# Altium integrated library Linear Technology Power Management Power-Over-Ethernet (PoE) Interface Controllers.IntLib: 174 symbols (part 15 of 16)
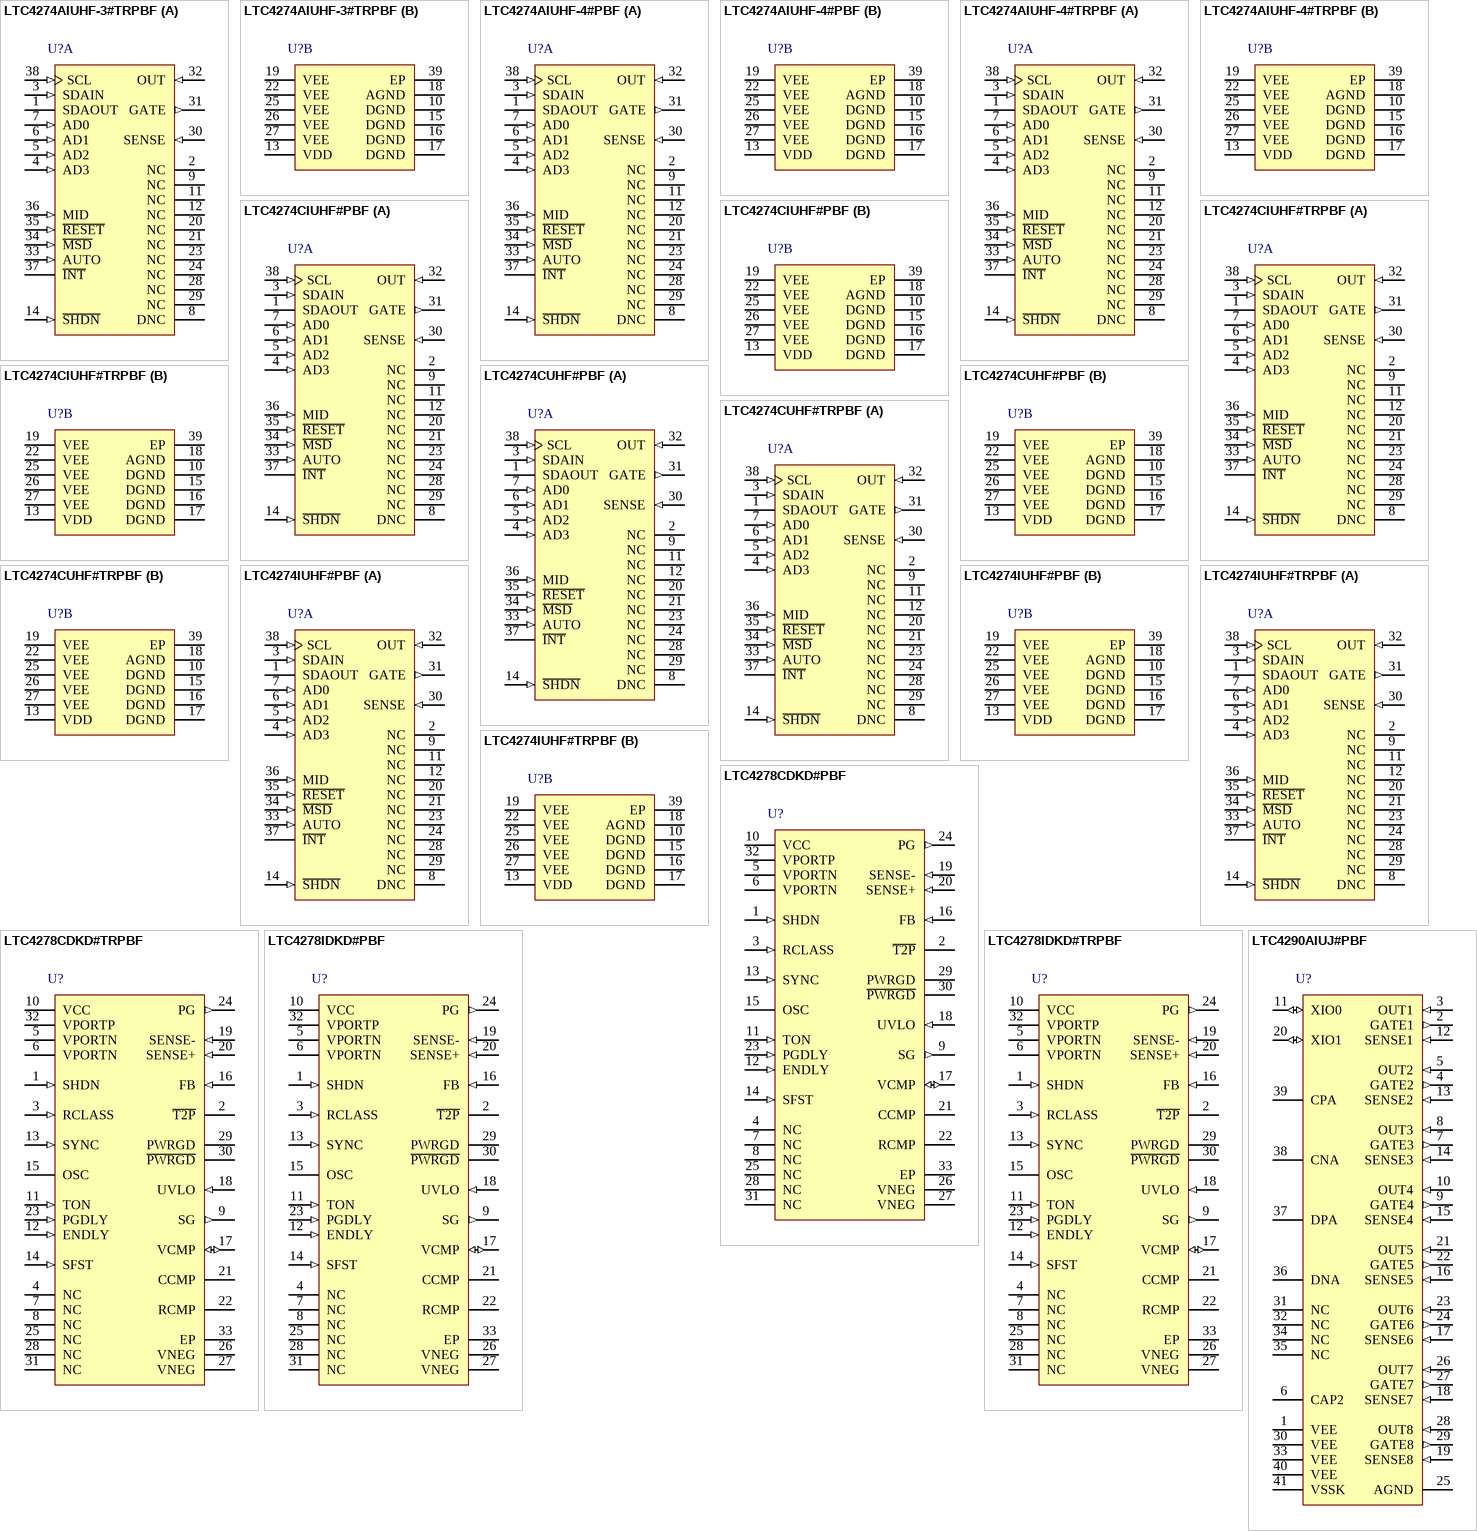
[diagram p22: symbols LTC4274AIUHF-3#TRPBF to LTC4290AIUJ#PBF]

## LTC4278CDKD#PBF
designator U?
IEEE 802.3at PD with Synchronous No-Opto Flyback Controller and 12 V Aux Support, 32-pin SON (DKD-32), 0 to 70 degC, Pb-Free; Manufacturer: Linear Technology; PartNumber: LTC4278CDKD#PBF; Channels(#): 1; Extended Temp: C, I; I2C Interface: yes; Max Power(W): 25.5; PoE Type: 2; DatasheetVersion: Rev. C; PackageVersion: Rev. A, 06/2010; PackageReference: DKD-32; PackageDescription: 32-Pin Plastic DFN, Body 7 x 4 mm, Pitch 0.4 mm; Supplier 1: Digi-Key; Supplier Part Number 1: LTC4278CDKD#PBF-ND; Supplier 2: Farnell; Supplier Part Number 2: 1761214; Supplier 3: Newark; Supplier Part Number 3: 24R3331; PSE/PD: PD; RoHS: TRUE; Mounting Technology: Surface Mount; Code_JEDEC: M0-229; ComponentLink1Description: Manufacturer URL; ComponentLink1URL: http://www.linear.com/; ComponentLink2Description: Datasheet; ComponentLink2URL: http://cds.linear.com/docs/en/datasheet/4278fc.pdf; ComponentLink3Description: Package Specification; ComponentLink3URL: http://cds.linear.com/docs/en/packaging/DFN_32_05-08-1734.pdf
footprint LT-DKD-32_V (SON, 32-Leads, Body 7x4mm, Pitch 0.4mm, Thermal Pad 6.43x2.65mm)
pins: 1 SHDN (in) "Shutdown Input. Use this pin for auxiliary power application. Drive SHDN high to disable LTC4278 operation and corrupt the signature resistance. If unused, tie SHDN to VPORTN.", 2 ~{T2P} (oc) "Type 2 PSE Indicator, Open-Drain. Low impedance indicates the presence of a Type 2 PSE.", 3 RCLASS (in) "Class Select Input. Connect a resistor between RCLASS and VPORTN to set the classification load current (see Table 2).", 4 NC "No Connect.", 5 VPORTN (power) "Input Voltage, Negative Rail. Pin 5 and Pin 6 must be electrically tied together at the package.", 6 VPORTN (power) "Input Voltage, Negative Rail. Pin 5 and Pin 6 must be electrically tied together at the package.", 7 NC "No Connect.", 8 NC "No Connect.", 9 SG (out) "Synchronous Gate Drive Output. This pin provides an output signal for a secondary-side synchronous rectifier. Large dynamic currents may flow during voltage transitions. See the Applications Information section for details.", 10 VCC (power) "Supply Voltage Pin. Bypass this pin to GND with a low ESR ceramic capacitor. See the Applications Information section for details.", 11 TON (in) "Pin for external programming resistor to set the minimum time that the primary switch is on for each cycle. Minimum turn-on facilitates the isolated feedback method. See the Applications Information section for details.", 12 ENDLY (in) "Pin for external programming resistor to set enable delay time. The enable delay time disables the feedback amplifier for a fixed time after the turn-off of the primary-side MOSFET. This allows the leakage inductance voltage (See Datasheet)", 13 SYNC (in) "External Sync Input. This pin is used to synchronize the internal oscillator with an external clock. The positive edge of the clock causes the oscillator to discharge causing PG to go low (off) and SG high (on). The sync (See Datasheet)", 14 SFST (in) "Soft-Start. This pin, in conjunction with a capacitor (CSFST) to GND, controls the ramp-up of peak primary current through the sense resistor. It is also used to control converter inrush at start-up. The SFST clamps the VCMP (See Datasheet)", 15 OSC "Oscillator. This pin, in conjunction with an external capacitor (COSC) to GND, defines the controller oscillator frequency. The frequency is approximately 100kHz • 100/COSC (pF).", 16 FB (in) "Feedback Amplifier Input. Feedback is usually sensed via a third winding and enabled during the flyback period. This pin also sinks additional current to compensate for load current variation as set by the RCMP pin. Keep the (See Datasheet)", 17 VCMP (io) "Frequency Compensation Control. VCMP is used for frequency compensation of the switcher control loop. It is the output of the feedback amplifier and the input to the current comparator. Switcher frequency compensation (See Datasheet)", 18 UVLO (in) "Undervoltage Lockout. A resistive divider from VPORTP to this pin sets an undervoltage lockout based upon VPORTP level (not VCC). When the UVLO pin is below its threshold, the gate drives are disabled, but the part draws its (See Datasheet)", 19 SENSE- (in) "Current Sense Inputs. These pins are used to measure primary-side switch current through an external sense resistor. Peak primary-side current is used in the converter control loop. Make Kelvin connections to the sense (See Datasheet)", 20 SENSE+ (in) "Current Sense Inputs. These pins are used to measure primary-side switch current through an external sense resistor. Peak primary-side current is used in the converter control loop. Make Kelvin connections to the sense (See Datasheet)", 21 CCMP "Load Compensation Capacitive Control. Connect a capacitor from CCMP to GND in order to reduce the effects of parasitic resistances in the feedback sensing path. A 0.1uF ceramic capacitor suffices for most applications. Short (See Datasheet)", 22 RCMP "Load Compensation Resistive Control. Connect a resistor from RCMP to GND in order to compensate for parasitic resistances in the feedback sensing path. In less demanding applications, this resistor is not needed and this pin (See Datasheet)", 23 PGDLY (in) "Primary Gate Delay Control. Connect an external programming resistor (RPGDLY) to set delay from synchronous gate turn-off to primary gate turn-on. See the Applications Information section for details.", 24 PG (out) "Primary Gate Drive. PG is the gate drive pin for the primary-side MOSFET switch. Large dynamic currents flow during voltage transitions. See the Applications Information section for details.", 25 NC "No Connect.", 26 VNEG (power) "System Negative Rail. Connects VNEG to VPORTN through an internal power MOSFET. Pin 26 and Pin 27 must be electrically tied together at the package.", 27 VNEG (power) "System Negative Rail. Connects VNEG to VPORTN through an internal power MOSFET. Pin 26 and Pin 27 must be electrically tied together at the package.", 28 NC "No Connect.", 29 PWRGD (hiz) "Power Good Output, Open-Collector. High impedance signals power-up completion. PWRGD is referenced to VNEG and features a 14V clamp.", 30 ~{PWRGD} (oc) "Complementary Power Good Output, Open-Drain. Low impedance signals power-up completion.P\W\R\G\D\ is referenced to VPORTN.", 31 NC "No Connect.", 32 VPORTP (power) "Positive Power Input. Tie to the input port power through the input diode bridge.", 33 EP (power) "Ground. This is the negative rail connection for both signal ground and gate driver grounds of the flyback controller. This pin should be connected to VNEG."

## LTC4278CDKD#TRPBF
designator U?
IEEE 802.3at PD with Synchronous No-Opto Flyback Controller and 12 V Aux Support, 32-pin SON (DKD-32), 0 to 70 degC, Pb-Free, Tape and Reel; Manufacturer: Linear Technology; PartNumber: LTC4278CDKD#TRPBF; Channels(#): 1; Extended Temp: C, I; I2C Interface: yes; Max Power(W): 25.5; PoE Type: 2; DatasheetVersion: Rev. C; PackageVersion: Rev. A, 06/2010; PackageReference: DKD-32; PackageDescription: 32-Pin Plastic DFN, Body 7 x 4 mm, Pitch 0.4 mm; Supplier 1: Digi-Key; Supplier Part Number 1: LTC4278CDKD#TRPBF-ND; Packing: Tape and Reel; PSE/PD: PD; RoHS: TRUE; Mounting Technology: Surface Mount; Code_JEDEC: M0-229; ComponentLink1Description: Manufacturer URL; ComponentLink1URL: http://www.linear.com/; ComponentLink2Description: Datasheet; ComponentLink2URL: http://cds.linear.com/docs/en/datasheet/4278fc.pdf; ComponentLink3Description: Package Specification; ComponentLink3URL: http://cds.linear.com/docs/en/packaging/DFN_32_05-08-1734.pdf
footprint LT-DKD-32_V (SON, 32-Leads, Body 7x4mm, Pitch 0.4mm, Thermal Pad 6.43x2.65mm)
pins: 1 SHDN (in) "Shutdown Input. Use this pin for auxiliary power application. Drive SHDN high to disable LTC4278 operation and corrupt the signature resistance. If unused, tie SHDN to VPORTN.", 2 ~{T2P} (oc) "Type 2 PSE Indicator, Open-Drain. Low impedance indicates the presence of a Type 2 PSE.", 3 RCLASS (in) "Class Select Input. Connect a resistor between RCLASS and VPORTN to set the classification load current (see Table 2).", 4 NC "No Connect.", 5 VPORTN (power) "Input Voltage, Negative Rail. Pin 5 and Pin 6 must be electrically tied together at the package.", 6 VPORTN (power) "Input Voltage, Negative Rail. Pin 5 and Pin 6 must be electrically tied together at the package.", 7 NC "No Connect.", 8 NC "No Connect.", 9 SG (out) "Synchronous Gate Drive Output. This pin provides an output signal for a secondary-side synchronous rectifier. Large dynamic currents may flow during voltage transitions. See the Applications Information section for details.", 10 VCC (power) "Supply Voltage Pin. Bypass this pin to GND with a low ESR ceramic capacitor. See the Applications Information section for details.", 11 TON (in) "Pin for external programming resistor to set the minimum time that the primary switch is on for each cycle. Minimum turn-on facilitates the isolated feedback method. See the Applications Information section for details.", 12 ENDLY (in) "Pin for external programming resistor to set enable delay time. The enable delay time disables the feedback amplifier for a fixed time after the turn-off of the primary-side MOSFET. This allows the leakage inductance voltage (See Datasheet)", 13 SYNC (in) "External Sync Input. This pin is used to synchronize the internal oscillator with an external clock. The positive edge of the clock causes the oscillator to discharge causing PG to go low (off) and SG high (on). The sync (See Datasheet)", 14 SFST (in) "Soft-Start. This pin, in conjunction with a capacitor (CSFST) to GND, controls the ramp-up of peak primary current through the sense resistor. It is also used to control converter inrush at start-up. The SFST clamps the VCMP (See Datasheet)", 15 OSC "Oscillator. This pin, in conjunction with an external capacitor (COSC) to GND, defines the controller oscillator frequency. The frequency is approximately 100kHz • 100/COSC (pF).", 16 FB (in) "Feedback Amplifier Input. Feedback is usually sensed via a third winding and enabled during the flyback period. This pin also sinks additional current to compensate for load current variation as set by the RCMP pin. Keep the (See Datasheet)", 17 VCMP (io) "Frequency Compensation Control. VCMP is used for frequency compensation of the switcher control loop. It is the output of the feedback amplifier and the input to the current comparator. Switcher frequency compensation (See Datasheet)", 18 UVLO (in) "Undervoltage Lockout. A resistive divider from VPORTP to this pin sets an undervoltage lockout based upon VPORTP level (not VCC). When the UVLO pin is below its threshold, the gate drives are disabled, but the part draws its (See Datasheet)", 19 SENSE- (in) "Current Sense Inputs. These pins are used to measure primary-side switch current through an external sense resistor. Peak primary-side current is used in the converter control loop. Make Kelvin connections to the sense (See Datasheet)", 20 SENSE+ (in) "Current Sense Inputs. These pins are used to measure primary-side switch current through an external sense resistor. Peak primary-side current is used in the converter control loop. Make Kelvin connections to the sense (See Datasheet)", 21 CCMP "Load Compensation Capacitive Control. Connect a capacitor from CCMP to GND in order to reduce the effects of parasitic resistances in the feedback sensing path. A 0.1uF ceramic capacitor suffices for most applications. Short (See Datasheet)", 22 RCMP "Load Compensation Resistive Control. Connect a resistor from RCMP to GND in order to compensate for parasitic resistances in the feedback sensing path. In less demanding applications, this resistor is not needed and this pin (See Datasheet)", 23 PGDLY (in) "Primary Gate Delay Control. Connect an external programming resistor (RPGDLY) to set delay from synchronous gate turn-off to primary gate turn-on. See the Applications Information section for details.", 24 PG (out) "Primary Gate Drive. PG is the gate drive pin for the primary-side MOSFET switch. Large dynamic currents flow during voltage transitions. See the Applications Information section for details.", 25 NC "No Connect.", 26 VNEG (power) "System Negative Rail. Connects VNEG to VPORTN through an internal power MOSFET. Pin 26 and Pin 27 must be electrically tied together at the package.", 27 VNEG (power) "System Negative Rail. Connects VNEG to VPORTN through an internal power MOSFET. Pin 26 and Pin 27 must be electrically tied together at the package.", 28 NC "No Connect.", 29 PWRGD (hiz) "Power Good Output, Open-Collector. High impedance signals power-up completion. PWRGD is referenced to VNEG and features a 14V clamp.", 30 ~{PWRGD} (oc) "Complementary Power Good Output, Open-Drain. Low impedance signals power-up completion.P\W\R\G\D\ is referenced to VPORTN.", 31 NC "No Connect.", 32 VPORTP (power) "Positive Power Input. Tie to the input port power through the input diode bridge.", 33 EP (power) "Ground. This is the negative rail connection for both signal ground and gate driver grounds of the flyback controller. This pin should be connected to VNEG."

## LTC4278IDKD#PBF
designator U?
IEEE 802.3at PD with Synchronous No-Opto Flyback Controller and 12 V Aux Support, 32-pin SON (DKD-32), -40 to 85 degC, Pb-Free; Manufacturer: Linear Technology; PartNumber: LTC4278IDKD#PBF; Channels(#): 1; Extended Temp: C, I; I2C Interface: yes; Max Power(W): 25.5; PoE Type: 2; DatasheetVersion: Rev. C; PackageVersion: Rev. A, 06/2010; PackageReference: DKD-32; PackageDescription: 32-Pin Plastic DFN, Body 7 x 4 mm, Pitch 0.4 mm; Supplier 1: Digi-Key; Supplier Part Number 1: LTC4278IDKD#PBF-ND; Supplier 2: Newark; Supplier Part Number 2: 24R3332; PSE/PD: PD; RoHS: TRUE; Mounting Technology: Surface Mount; Code_JEDEC: M0-229; ComponentLink1Description: Manufacturer URL; ComponentLink1URL: http://www.linear.com/; ComponentLink2Description: Datasheet; ComponentLink2URL: http://cds.linear.com/docs/en/datasheet/4278fc.pdf; ComponentLink3Description: Package Specification; ComponentLink3URL: http://cds.linear.com/docs/en/packaging/DFN_32_05-08-1734.pdf
footprint LT-DKD-32_V (SON, 32-Leads, Body 7x4mm, Pitch 0.4mm, Thermal Pad 6.43x2.65mm)
pins: 1 SHDN (in) "Shutdown Input. Use this pin for auxiliary power application. Drive SHDN high to disable LTC4278 operation and corrupt the signature resistance. If unused, tie SHDN to VPORTN.", 2 ~{T2P} (oc) "Type 2 PSE Indicator, Open-Drain. Low impedance indicates the presence of a Type 2 PSE.", 3 RCLASS (in) "Class Select Input. Connect a resistor between RCLASS and VPORTN to set the classification load current (see Table 2).", 4 NC "No Connect.", 5 VPORTN (power) "Input Voltage, Negative Rail. Pin 5 and Pin 6 must be electrically tied together at the package.", 6 VPORTN (power) "Input Voltage, Negative Rail. Pin 5 and Pin 6 must be electrically tied together at the package.", 7 NC "No Connect.", 8 NC "No Connect.", 9 SG (out) "Synchronous Gate Drive Output. This pin provides an output signal for a secondary-side synchronous rectifier. Large dynamic currents may flow during voltage transitions. See the Applications Information section for details.", 10 VCC (power) "Supply Voltage Pin. Bypass this pin to GND with a low ESR ceramic capacitor. See the Applications Information section for details.", 11 TON (in) "Pin for external programming resistor to set the minimum time that the primary switch is on for each cycle. Minimum turn-on facilitates the isolated feedback method. See the Applications Information section for details.", 12 ENDLY (in) "Pin for external programming resistor to set enable delay time. The enable delay time disables the feedback amplifier for a fixed time after the turn-off of the primary-side MOSFET. This allows the leakage inductance voltage (See Datasheet)", 13 SYNC (in) "External Sync Input. This pin is used to synchronize the internal oscillator with an external clock. The positive edge of the clock causes the oscillator to discharge causing PG to go low (off) and SG high (on). The sync (See Datasheet)", 14 SFST (in) "Soft-Start. This pin, in conjunction with a capacitor (CSFST) to GND, controls the ramp-up of peak primary current through the sense resistor. It is also used to control converter inrush at start-up. The SFST clamps the VCMP (See Datasheet)", 15 OSC "Oscillator. This pin, in conjunction with an external capacitor (COSC) to GND, defines the controller oscillator frequency. The frequency is approximately 100kHz • 100/COSC (pF).", 16 FB (in) "Feedback Amplifier Input. Feedback is usually sensed via a third winding and enabled during the flyback period. This pin also sinks additional current to compensate for load current variation as set by the RCMP pin. Keep the (See Datasheet)", 17 VCMP (io) "Frequency Compensation Control. VCMP is used for frequency compensation of the switcher control loop. It is the output of the feedback amplifier and the input to the current comparator. Switcher frequency compensation (See Datasheet)", 18 UVLO (in) "Undervoltage Lockout. A resistive divider from VPORTP to this pin sets an undervoltage lockout based upon VPORTP level (not VCC). When the UVLO pin is below its threshold, the gate drives are disabled, but the part draws its (See Datasheet)", 19 SENSE- (in) "Current Sense Inputs. These pins are used to measure primary-side switch current through an external sense resistor. Peak primary-side current is used in the converter control loop. Make Kelvin connections to the sense (See Datasheet)", 20 SENSE+ (in) "Current Sense Inputs. These pins are used to measure primary-side switch current through an external sense resistor. Peak primary-side current is used in the converter control loop. Make Kelvin connections to the sense (See Datasheet)", 21 CCMP "Load Compensation Capacitive Control. Connect a capacitor from CCMP to GND in order to reduce the effects of parasitic resistances in the feedback sensing path. A 0.1uF ceramic capacitor suffices for most applications. Short (See Datasheet)", 22 RCMP "Load Compensation Resistive Control. Connect a resistor from RCMP to GND in order to compensate for parasitic resistances in the feedback sensing path. In less demanding applications, this resistor is not needed and this pin (See Datasheet)", 23 PGDLY (in) "Primary Gate Delay Control. Connect an external programming resistor (RPGDLY) to set delay from synchronous gate turn-off to primary gate turn-on. See the Applications Information section for details.", 24 PG (out) "Primary Gate Drive. PG is the gate drive pin for the primary-side MOSFET switch. Large dynamic currents flow during voltage transitions. See the Applications Information section for details.", 25 NC "No Connect.", 26 VNEG (power) "System Negative Rail. Connects VNEG to VPORTN through an internal power MOSFET. Pin 26 and Pin 27 must be electrically tied together at the package.", 27 VNEG (power) "System Negative Rail. Connects VNEG to VPORTN through an internal power MOSFET. Pin 26 and Pin 27 must be electrically tied together at the package.", 28 NC "No Connect.", 29 PWRGD (hiz) "Power Good Output, Open-Collector. High impedance signals power-up completion. PWRGD is referenced to VNEG and features a 14V clamp.", 30 ~{PWRGD} (oc) "Complementary Power Good Output, Open-Drain. Low impedance signals power-up completion.P\W\R\G\D\ is referenced to VPORTN.", 31 NC "No Connect.", 32 VPORTP (power) "Positive Power Input. Tie to the input port power through the input diode bridge.", 33 EP (power) "Ground. This is the negative rail connection for both signal ground and gate driver grounds of the flyback controller. This pin should be connected to VNEG."

## LTC4278IDKD#TRPBF
designator U?
IEEE 802.3at PD with Synchronous No-Opto Flyback Controller and 12 V Aux Support, 32-pin SON (DKD-32), -40 to 85 degC, Pb-Free, Tape and Reel; Manufacturer: Linear Technology; PartNumber: LTC4278IDKD#TRPBF; Channels(#): 1; Extended Temp: C, I; I2C Interface: yes; Max Power(W): 25.5; PoE Type: 2; DatasheetVersion: Rev. C; PackageVersion: Rev. A, 06/2010; PackageReference: DKD-32; PackageDescription: 32-Pin Plastic DFN, Body 7 x 4 mm, Pitch 0.4 mm; Supplier 1: Digi-Key; Supplier Part Number 1: LTC4278IDKD#TRPBF-ND; Supplier 2: Newark; Supplier Part Number 2: 25R2529; Packing: Tape and Reel; PSE/PD: PD; RoHS: TRUE; Mounting Technology: Surface Mount; Code_JEDEC: M0-229; ComponentLink1Description: Manufacturer URL; ComponentLink1URL: http://www.linear.com/; ComponentLink2Description: Datasheet; ComponentLink2URL: http://cds.linear.com/docs/en/datasheet/4278fc.pdf; ComponentLink3Description: Package Specification; ComponentLink3URL: http://cds.linear.com/docs/en/packaging/DFN_32_05-08-1734.pdf
footprint LT-DKD-32_V (SON, 32-Leads, Body 7x4mm, Pitch 0.4mm, Thermal Pad 6.43x2.65mm)
pins: 1 SHDN (in) "Shutdown Input. Use this pin for auxiliary power application. Drive SHDN high to disable LTC4278 operation and corrupt the signature resistance. If unused, tie SHDN to VPORTN.", 2 ~{T2P} (oc) "Type 2 PSE Indicator, Open-Drain. Low impedance indicates the presence of a Type 2 PSE.", 3 RCLASS (in) "Class Select Input. Connect a resistor between RCLASS and VPORTN to set the classification load current (see Table 2).", 4 NC "No Connect.", 5 VPORTN (power) "Input Voltage, Negative Rail. Pin 5 and Pin 6 must be electrically tied together at the package.", 6 VPORTN (power) "Input Voltage, Negative Rail. Pin 5 and Pin 6 must be electrically tied together at the package.", 7 NC "No Connect.", 8 NC "No Connect.", 9 SG (out) "Synchronous Gate Drive Output. This pin provides an output signal for a secondary-side synchronous rectifier. Large dynamic currents may flow during voltage transitions. See the Applications Information section for details.", 10 VCC (power) "Supply Voltage Pin. Bypass this pin to GND with a low ESR ceramic capacitor. See the Applications Information section for details.", 11 TON (in) "Pin for external programming resistor to set the minimum time that the primary switch is on for each cycle. Minimum turn-on facilitates the isolated feedback method. See the Applications Information section for details.", 12 ENDLY (in) "Pin for external programming resistor to set enable delay time. The enable delay time disables the feedback amplifier for a fixed time after the turn-off of the primary-side MOSFET. This allows the leakage inductance voltage (See Datasheet)", 13 SYNC (in) "External Sync Input. This pin is used to synchronize the internal oscillator with an external clock. The positive edge of the clock causes the oscillator to discharge causing PG to go low (off) and SG high (on). The sync (See Datasheet)", 14 SFST (in) "Soft-Start. This pin, in conjunction with a capacitor (CSFST) to GND, controls the ramp-up of peak primary current through the sense resistor. It is also used to control converter inrush at start-up. The SFST clamps the VCMP (See Datasheet)", 15 OSC "Oscillator. This pin, in conjunction with an external capacitor (COSC) to GND, defines the controller oscillator frequency. The frequency is approximately 100kHz • 100/COSC (pF).", 16 FB (in) "Feedback Amplifier Input. Feedback is usually sensed via a third winding and enabled during the flyback period. This pin also sinks additional current to compensate for load current variation as set by the RCMP pin. Keep the (See Datasheet)", 17 VCMP (io) "Frequency Compensation Control. VCMP is used for frequency compensation of the switcher control loop. It is the output of the feedback amplifier and the input to the current comparator. Switcher frequency compensation (See Datasheet)", 18 UVLO (in) "Undervoltage Lockout. A resistive divider from VPORTP to this pin sets an undervoltage lockout based upon VPORTP level (not VCC). When the UVLO pin is below its threshold, the gate drives are disabled, but the part draws its (See Datasheet)", 19 SENSE- (in) "Current Sense Inputs. These pins are used to measure primary-side switch current through an external sense resistor. Peak primary-side current is used in the converter control loop. Make Kelvin connections to the sense (See Datasheet)", 20 SENSE+ (in) "Current Sense Inputs. These pins are used to measure primary-side switch current through an external sense resistor. Peak primary-side current is used in the converter control loop. Make Kelvin connections to the sense (See Datasheet)", 21 CCMP "Load Compensation Capacitive Control. Connect a capacitor from CCMP to GND in order to reduce the effects of parasitic resistances in the feedback sensing path. A 0.1uF ceramic capacitor suffices for most applications. Short (See Datasheet)", 22 RCMP "Load Compensation Resistive Control. Connect a resistor from RCMP to GND in order to compensate for parasitic resistances in the feedback sensing path. In less demanding applications, this resistor is not needed and this pin (See Datasheet)", 23 PGDLY (in) "Primary Gate Delay Control. Connect an external programming resistor (RPGDLY) to set delay from synchronous gate turn-off to primary gate turn-on. See the Applications Information section for details.", 24 PG (out) "Primary Gate Drive. PG is the gate drive pin for the primary-side MOSFET switch. Large dynamic currents flow during voltage transitions. See the Applications Information section for details.", 25 NC "No Connect.", 26 VNEG (power) "System Negative Rail. Connects VNEG to VPORTN through an internal power MOSFET. Pin 26 and Pin 27 must be electrically tied together at the package.", 27 VNEG (power) "System Negative Rail. Connects VNEG to VPORTN through an internal power MOSFET. Pin 26 and Pin 27 must be electrically tied together at the package.", 28 NC "No Connect.", 29 PWRGD (hiz) "Power Good Output, Open-Collector. High impedance signals power-up completion. PWRGD is referenced to VNEG and features a 14V clamp.", 30 ~{PWRGD} (oc) "Complementary Power Good Output, Open-Drain. Low impedance signals power-up completion.P\W\R\G\D\ is referenced to VPORTN.", 31 NC "No Connect.", 32 VPORTP (power) "Positive Power Input. Tie to the input port power through the input diode bridge.", 33 EP (power) "Ground. This is the negative rail connection for both signal ground and gate driver grounds of the flyback controller. This pin should be connected to VNEG."

## LTC4290AIUJ#PBF
designator U?
8-Port PoE / PoE+ / LTPoE++ PSE Controller, 40-pin QFN (UJ-40), -40 to 85 degC, Pb-Free; Manufacturer: Linear Technology; PartNumber: LTC4290AIUJ#PBF; Channels(#): 8; Extended Temp: I; I2C Interface: yes; Max Power(W): 90; PoE Type: 1, 2; DatasheetVersion: Rev. A; PackageVersion: Rev. Ø, 06/2010; PackageReference: UJ-40; PackageDescription: 40-Pin Plastic QFN, Body 6 x 6 mm, Pitch 0.5 mm; Supplier 1: Digi-Key; Supplier Part Number 1: LTC4290AIUJ#PBF-ND; Supplier 2: Farnell; Supplier Part Number 2: 2322427; Supplier 3: Newark; Supplier Part Number 3: 71W8472; PSE/PD: PSE; RoHS: TRUE; Mounting Technology: Surface Mount; ComponentLink1Description: Manufacturer URL; ComponentLink1URL: http://www.linear.com/; ComponentLink2Description: Datasheet; ComponentLink2URL: http://cds.linear.com/docs/en/datasheet/429071fa.pdf; ComponentLink3Description: Package Specification; ComponentLink3URL: http://cds.linear.com/docs/en/packaging/QFN_40_05-08-1728.pdf
footprint LT-UJ-40_N (QFN, 40-Leads, Body 6.1x6.1mm, Pitch 0.5mm, Thermal Pad 4.42x4.42mm, IPC Medium Density)
footprint LT-UJ-40_L (QFN, 40-Leads, Body 6.1x6.1mm, Pitch 0.5mm, Thermal Pad 4.42x4.42mm, IPC High Density)
footprint LT-UJ-40_M (QFN, 40-Leads, Body 6.1x6.1mm, Pitch 0.5mm, Thermal Pad 4.42x4.42mm, IPC Low Density)
pins: 1 VEE (power) "Main PoE Supply Input. Connect to a -45V to -57V supply, relative to AGND. Voltage depends on PSE type (Type 1, Type 2 or LTPoE++).", 2 GATE1 (out) "Port 1 Gate Drive. GATE2 should be connected to the gate of the external MOSFET for port 1. When the MOSFET is turned on, the gate voltage is driven to 12V (typ) above VEE. During a current limit condition, the voltage at (See Datasheet)", 3 OUT1 (in) "Port 1 Output Voltage Monitor. OUT1 should be connected to the output port. A current limit foldback circuit limits the power dissipation in the external MOSFET by reducing the current limit threshold when the (See Datasheet)", 4 GATE2 (out) "Port 2 Gate Drive. GATE2 should be connected to the gate of the external MOSFET for port 2. When the MOSFET is turned on, the gate voltage is driven to 12V (typ) above VEE. During a current limit condition, the voltage at (See Datasheet)", 5 OUT2 (in) "Port 2 Output Voltage Monitor. OUT2 should be connected to the output port. A current limit foldback circuit limits the power dissipation in the external MOSFET by reducing the current limit threshold when the (See Datasheet)", 6 CAP2 "Analog Internal 4.3V Power Supply Bypass Capacitor. Connect 0.1uF ceramic cap to VEE.", 7 GATE3 (out) "Port 3 Gate Drive. GATE3 should be connected to the gate of the external MOSFET for port 3. When the MOSFET is turned on, the gate voltage is driven to 12V (typ) above VEE. During a current limit condition, the voltage at (See Datasheet)", 8 OUT3 (in) "Port 3 Output Voltage Monitor. OUT3 should be connected to the output port. A current limit foldback circuit limits the power dissipation in the external MOSFET by reducing the current limit threshold when the (See Datasheet)", 9 GATE4 (out) "Port 4 Gate Drive. GATE4 should be connected to the gate of the external MOSFET for port 4. When the MOSFET is turned on, the gate voltage is driven to 12V (typ) above VEE. During a current limit condition, the voltage at (See Datasheet)", 10 OUT4 (in) "Port 4 Output Voltage Monitor. OUT4 should be connected to the output port. A current limit foldback circuit limits the power dissipation in the external MOSFET by reducing the current limit threshold when the (See Datasheet)", 11 XIO0 (io) "General Purpose Digital Input Output. Logic signal between VEE and VEE + 4.3V. Internal pull up.", 12 SENSE1 (in) "Port 1 Current Sense Input. SENSE1 monitors the external MOSFET current via a 0.5ohm or 0.25ohm sense resistor between SENSE1 and VEE. Whenever the voltage across the sense resistor exceeds the overcurrent detection (See Datasheet)", 13 SENSE2 (in) "Port 2 Current Sense Input. SENSE2 monitors the external MOSFET current via a 0.5ohm or 0.25ohm sense resistor between SENSE2 and VEE. Whenever the voltage across the sense resistor exceeds the overcurrent detection (See Datasheet)", 14 SENSE3 (in) "Port 3 Current Sense Input. SENSE3 monitors the external MOSFET current via a 0.5ohm or 0.25ohm sense resistor between SENSE3 and VEE. Whenever the voltage across the sense resistor exceeds the overcurrent detection (See Datasheet)", 15 SENSE4 (in) "Port 4 Current Sense Input. SENSE4 monitors the external MOSFET current via a 0.5ohm or 0.25ohm sense resistor between SENSE4 and VEE. Whenever the voltage across the sense resistor exceeds the overcurrent detection (See Datasheet)", 16 SENSE5 (in) "Port 5 Current Sense Input. SENSE5 monitors the external MOSFET current via a 0.5ohm or 0.25ohm sense resistor between SENSE5 and VEE. Whenever the voltage across the sense resistor exceeds the overcurrent detection (See Datasheet)", 17 SENSE6 (in) "Port 6 Current Sense Input. SENSE6 monitors the external MOSFET current via a 0.5ohm or 0.25ohm sense resistor between SENSE6 and VEE. Whenever the voltage across the sense resistor exceeds the overcurrent detection (See Datasheet)", 18 SENSE7 (in) "Port 7 Current Sense Input. SENSE7 monitors the external MOSFET current via a 0.5ohm or 0.25ohm sense resistor between SENSE7 and VEE. Whenever the voltage across the sense resistor exceeds the overcurrent detection (See Datasheet)", 19 SENSE8 (in) "Port 8 Current Sense Input. SENSE8 monitors the external MOSFET current via a 0.5ohm or 0.25ohm sense resistor between SENSE8 and VEE. Whenever the voltage across the sense resistor exceeds the overcurrent detection (See Datasheet)", 20 XIO1 (io) "General Purpose Digital Input Output. Logic signal between VEE and VEE + 4.3V. Internal pull up.", 21 OUT5 (in) "Port 5 Output Voltage Monitor. OUT5 should be connected to the output port. A current limit foldback circuit limits the power dissipation in the external MOSFET by reducing the current limit threshold when the (See Datasheet)", 22 GATE5 (out) "Port 5 Gate Drive. GATE5 should be connected to the gate of the external MOSFET for port 5. When the MOSFET is turned on, the gate voltage is driven to 12V (typ) above VEE. During a current limit condition, the voltage at (See Datasheet)", 23 OUT6 (in) "Port 6 Output Voltage Monitor. OUT6 should be connected to the output port. A current limit foldback circuit limits the power dissipation in the external MOSFET by reducing the current limit threshold when the (See Datasheet)", 24 GATE6 (out) "Port 6 Gate Drive. GATE6 should be connected to the gate of the external MOSFET for port 6. When the MOSFET is turned on, the gate voltage is driven to 12V (typ) above VEE. During a current limit condition, the voltage at (See Datasheet)", 25 AGND (power) "Analog Ground. Connect AGND to the return for the VEE supply.", 26 OUT7 (in) "Port 7 Output Voltage Monitor. OUT7 should be connected to the output port. A current limit foldback circuit limits the power dissipation in the external MOSFET by reducing the current limit threshold when the (See Datasheet)", 27 GATE7 (out) "Port 7 Gate Drive. GATE7 should be connected to the gate of the external MOSFET for port 7. When the MOSFET is turned on, the gate voltage is driven to 12V (typ) above VEE. During a current limit condition, the voltage at (See Datasheet)", 28 OUT8 (in) "Port 8 Output Voltage Monitor. OUT8 should be connected to the output port. A current limit foldback circuit limits the power dissipation in the external MOSFET by reducing the current limit threshold when the (See Datasheet)", 29 GATE8 (out) "Port 8 Gate Drive. GATEn should be connected to the gate of the external MOSFET for port 8. When the MOSFET is turned on, the gate voltage is driven to 12V (typ) above VEE. During a current limit condition, the voltage at (See Datasheet)", 30 VEE (power) "Main PoE Supply Input. Connect to a -45V to -57V supply, relative to AGND. Voltage depends on PSE type (Type 1, Type 2 or LTPoE++).", 31 NC "All pins identified with “NC” or “DNC” must be left unconnected.", 32 NC "All pins identified with “NC” or “DNC” must be left unconnected.", 33 VEE (power) "Main PoE Supply Input. Connect to a -45V to -57V supply, relative to AGND. Voltage depends on PSE type (Type 1, Type 2 or LTPoE++).", 34 NC "All pins identified with “NC” or “DNC” must be left unconnected.", 35 NC "All pins identified with “NC” or “DNC” must be left unconnected.", 36 DNA "Data Transceiver Negative Input Output (Analog). Connect to DND through a data transformer", 37 DPA "Data Transceiver Positive Input Output (Analog). Connect to DPD through a data transformer.", 38 CNA "Clock Transceiver Negative Input Output (Analog). Connect to CND through a data transformer.", 39 CPA "Clock Transceiver Positive Input Output (Analog). Connect to CPD through a data transformer.", 40 VEE (power) "Main PoE Supply Input. Connect to a -45V to -57V supply, relative to AGND. Voltage depends on PSE type (Type 1, Type 2 or LTPoE++).", 41 VSSK (power) "Kelvin Sense to VEE. Connect to sense resistor common node. Do not connect directly to VEE plane. See Layout Guide."

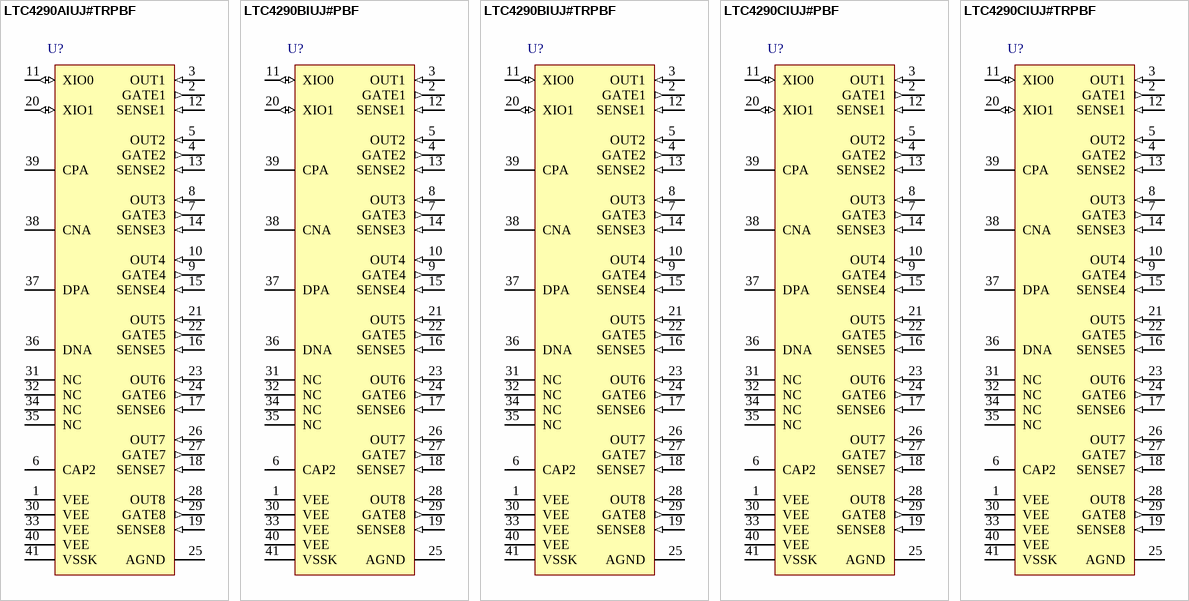
[diagram p8: symbols LTC4290AIUJ#TRPBF to LTC4290CIUJ#TRPBF]

## LTC4290AIUJ#TRPBF
designator U?
8-Port PoE / PoE+ / LTPoE++ PSE Controller, 40-pin QFN (UJ-40), -40 to 85 degC, Pb-Free, Tape and Reel; Manufacturer: Linear Technology; PartNumber: LTC4290AIUJ#TRPBF; Channels(#): 8; Extended Temp: I; I2C Interface: yes; Max Power(W): 90; PoE Type: 1, 2; DatasheetVersion: Rev. A; PackageVersion: Rev. Ø, 06/2010; PackageReference: UJ-40; PackageDescription: 40-Pin Plastic QFN, Body 6 x 6 mm, Pitch 0.5 mm; Supplier 1: Digi-Key; Supplier Part Number 1: LTC4290AIUJ#TRPBF-ND; Supplier 2: Newark; Supplier Part Number 2: 87W6207; Supplier 3: Newark; Supplier Part Number 3: 71W8473; Packing: Tape and Reel; PSE/PD: PSE; RoHS: TRUE; Mounting Technology: Surface Mount; ComponentLink1Description: Manufacturer URL; ComponentLink1URL: http://www.linear.com/; ComponentLink2Description: Datasheet; ComponentLink2URL: http://cds.linear.com/docs/en/datasheet/429071fa.pdf; ComponentLink3Description: Package Specification; ComponentLink3URL: http://cds.linear.com/docs/en/packaging/QFN_40_05-08-1728.pdf
footprint LT-UJ-40_N (QFN, 40-Leads, Body 6.1x6.1mm, Pitch 0.5mm, Thermal Pad 4.42x4.42mm, IPC Medium Density)
footprint LT-UJ-40_L (QFN, 40-Leads, Body 6.1x6.1mm, Pitch 0.5mm, Thermal Pad 4.42x4.42mm, IPC High Density)
footprint LT-UJ-40_M (QFN, 40-Leads, Body 6.1x6.1mm, Pitch 0.5mm, Thermal Pad 4.42x4.42mm, IPC Low Density)
pins: 1 VEE (power) "Main PoE Supply Input. Connect to a -45V to -57V supply, relative to AGND. Voltage depends on PSE type (Type 1, Type 2 or LTPoE++).", 2 GATE1 (out) "Port 1 Gate Drive. GATE2 should be connected to the gate of the external MOSFET for port 1. When the MOSFET is turned on, the gate voltage is driven to 12V (typ) above VEE. During a current limit condition, the voltage at (See Datasheet)", 3 OUT1 (in) "Port 1 Output Voltage Monitor. OUT1 should be connected to the output port. A current limit foldback circuit limits the power dissipation in the external MOSFET by reducing the current limit threshold when the (See Datasheet)", 4 GATE2 (out) "Port 2 Gate Drive. GATE2 should be connected to the gate of the external MOSFET for port 2. When the MOSFET is turned on, the gate voltage is driven to 12V (typ) above VEE. During a current limit condition, the voltage at (See Datasheet)", 5 OUT2 (in) "Port 2 Output Voltage Monitor. OUT2 should be connected to the output port. A current limit foldback circuit limits the power dissipation in the external MOSFET by reducing the current limit threshold when the (See Datasheet)", 6 CAP2 "Analog Internal 4.3V Power Supply Bypass Capacitor. Connect 0.1uF ceramic cap to VEE.", 7 GATE3 (out) "Port 3 Gate Drive. GATE3 should be connected to the gate of the external MOSFET for port 3. When the MOSFET is turned on, the gate voltage is driven to 12V (typ) above VEE. During a current limit condition, the voltage at (See Datasheet)", 8 OUT3 (in) "Port 3 Output Voltage Monitor. OUT3 should be connected to the output port. A current limit foldback circuit limits the power dissipation in the external MOSFET by reducing the current limit threshold when the (See Datasheet)", 9 GATE4 (out) "Port 4 Gate Drive. GATE4 should be connected to the gate of the external MOSFET for port 4. When the MOSFET is turned on, the gate voltage is driven to 12V (typ) above VEE. During a current limit condition, the voltage at (See Datasheet)", 10 OUT4 (in) "Port 4 Output Voltage Monitor. OUT4 should be connected to the output port. A current limit foldback circuit limits the power dissipation in the external MOSFET by reducing the current limit threshold when the (See Datasheet)", 11 XIO0 (io) "General Purpose Digital Input Output. Logic signal between VEE and VEE + 4.3V. Internal pull up.", 12 SENSE1 (in) "Port 1 Current Sense Input. SENSE1 monitors the external MOSFET current via a 0.5ohm or 0.25ohm sense resistor between SENSE1 and VEE. Whenever the voltage across the sense resistor exceeds the overcurrent detection (See Datasheet)", 13 SENSE2 (in) "Port 2 Current Sense Input. SENSE2 monitors the external MOSFET current via a 0.5ohm or 0.25ohm sense resistor between SENSE2 and VEE. Whenever the voltage across the sense resistor exceeds the overcurrent detection (See Datasheet)", 14 SENSE3 (in) "Port 3 Current Sense Input. SENSE3 monitors the external MOSFET current via a 0.5ohm or 0.25ohm sense resistor between SENSE3 and VEE. Whenever the voltage across the sense resistor exceeds the overcurrent detection (See Datasheet)", 15 SENSE4 (in) "Port 4 Current Sense Input. SENSE4 monitors the external MOSFET current via a 0.5ohm or 0.25ohm sense resistor between SENSE4 and VEE. Whenever the voltage across the sense resistor exceeds the overcurrent detection (See Datasheet)", 16 SENSE5 (in) "Port 5 Current Sense Input. SENSE5 monitors the external MOSFET current via a 0.5ohm or 0.25ohm sense resistor between SENSE5 and VEE. Whenever the voltage across the sense resistor exceeds the overcurrent detection (See Datasheet)", 17 SENSE6 (in) "Port 6 Current Sense Input. SENSE6 monitors the external MOSFET current via a 0.5ohm or 0.25ohm sense resistor between SENSE6 and VEE. Whenever the voltage across the sense resistor exceeds the overcurrent detection (See Datasheet)", 18 SENSE7 (in) "Port 7 Current Sense Input. SENSE7 monitors the external MOSFET current via a 0.5ohm or 0.25ohm sense resistor between SENSE7 and VEE. Whenever the voltage across the sense resistor exceeds the overcurrent detection (See Datasheet)", 19 SENSE8 (in) "Port 8 Current Sense Input. SENSE8 monitors the external MOSFET current via a 0.5ohm or 0.25ohm sense resistor between SENSE8 and VEE. Whenever the voltage across the sense resistor exceeds the overcurrent detection (See Datasheet)", 20 XIO1 (io) "General Purpose Digital Input Output. Logic signal between VEE and VEE + 4.3V. Internal pull up.", 21 OUT5 (in) "Port 5 Output Voltage Monitor. OUT5 should be connected to the output port. A current limit foldback circuit limits the power dissipation in the external MOSFET by reducing the current limit threshold when the (See Datasheet)", 22 GATE5 (out) "Port 5 Gate Drive. GATE5 should be connected to the gate of the external MOSFET for port 5. When the MOSFET is turned on, the gate voltage is driven to 12V (typ) above VEE. During a current limit condition, the voltage at (See Datasheet)", 23 OUT6 (in) "Port 6 Output Voltage Monitor. OUT6 should be connected to the output port. A current limit foldback circuit limits the power dissipation in the external MOSFET by reducing the current limit threshold when the (See Datasheet)", 24 GATE6 (out) "Port 6 Gate Drive. GATE6 should be connected to the gate of the external MOSFET for port 6. When the MOSFET is turned on, the gate voltage is driven to 12V (typ) above VEE. During a current limit condition, the voltage at (See Datasheet)", 25 AGND (power) "Analog Ground. Connect AGND to the return for the VEE supply.", 26 OUT7 (in) "Port 7 Output Voltage Monitor. OUT7 should be connected to the output port. A current limit foldback circuit limits the power dissipation in the external MOSFET by reducing the current limit threshold when the (See Datasheet)", 27 GATE7 (out) "Port 7 Gate Drive. GATE7 should be connected to the gate of the external MOSFET for port 7. When the MOSFET is turned on, the gate voltage is driven to 12V (typ) above VEE. During a current limit condition, the voltage at (See Datasheet)", 28 OUT8 (in) "Port 8 Output Voltage Monitor. OUT8 should be connected to the output port. A current limit foldback circuit limits the power dissipation in the external MOSFET by reducing the current limit threshold when the (See Datasheet)", 29 GATE8 (out) "Port 8 Gate Drive. GATEn should be connected to the gate of the external MOSFET for port 8. When the MOSFET is turned on, the gate voltage is driven to 12V (typ) above VEE. During a current limit condition, the voltage at (See Datasheet)", 30 VEE (power) "Main PoE Supply Input. Connect to a -45V to -57V supply, relative to AGND. Voltage depends on PSE type (Type 1, Type 2 or LTPoE++).", 31 NC "All pins identified with “NC” or “DNC” must be left unconnected.", 32 NC "All pins identified with “NC” or “DNC” must be left unconnected.", 33 VEE (power) "Main PoE Supply Input. Connect to a -45V to -57V supply, relative to AGND. Voltage depends on PSE type (Type 1, Type 2 or LTPoE++).", 34 NC "All pins identified with “NC” or “DNC” must be left unconnected.", 35 NC "All pins identified with “NC” or “DNC” must be left unconnected.", 36 DNA "Data Transceiver Negative Input Output (Analog). Connect to DND through a data transformer", 37 DPA "Data Transceiver Positive Input Output (Analog). Connect to DPD through a data transformer.", 38 CNA "Clock Transceiver Negative Input Output (Analog). Connect to CND through a data transformer.", 39 CPA "Clock Transceiver Positive Input Output (Analog). Connect to CPD through a data transformer.", 40 VEE (power) "Main PoE Supply Input. Connect to a -45V to -57V supply, relative to AGND. Voltage depends on PSE type (Type 1, Type 2 or LTPoE++).", 41 VSSK (power) "Kelvin Sense to VEE. Connect to sense resistor common node. Do not connect directly to VEE plane. See Layout Guide."